# Altium footprint library TESTPOINT_TH25mil.PcbLib: 1 footprints
Each footprint in its own frame and in the unit in brackets; x right, y up, seen from the top. Pads: shape width x height; smd on the part's side, far side on the other; paste and mask are expansions set on the pad; w line width, h text height; cw(c..) or ccw(c..) is an arc to the next point about the centre after c.
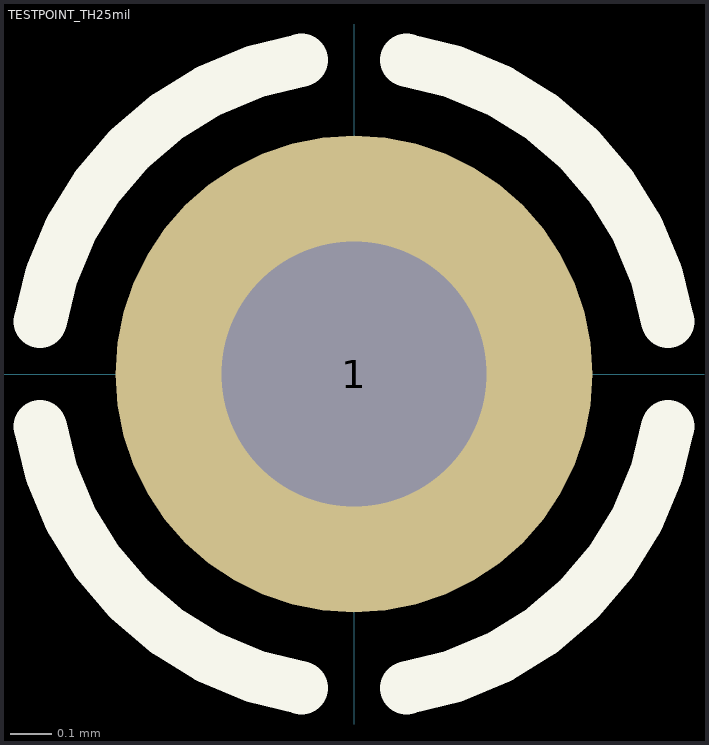
[diagram p0: the footprint, top view; thin cyan lines are the x and y axes]

## TESTPOINT_TH25mil [mil]
pads (1):
  round 45 hole 25 paste-40: 1(0,0)
Top Overlay:
  lines w5: -29.59,-4.93 ccw(c0,0) -4.93,-29.59 ; -29.59,4.93 cw(c0,0) -4.93,29.59 ; 4.93,-29.59 ccw(c0,0) 29.59,-4.93 ; 4.93,29.59 cw(c0,0) 29.59,4.93